# Altium footprint library BGM13P22F512GA-V2.PcbLib: 1 footprints
Each footprint in its own frame and in the unit in brackets; x right, y up, seen from the top. Pads: shape width x height; smd on the part's side, far side on the other; paste and mask are expansions set on the pad; w line width, h text height; cw(c..) or ccw(c..) is an arc to the next point about the centre after c.
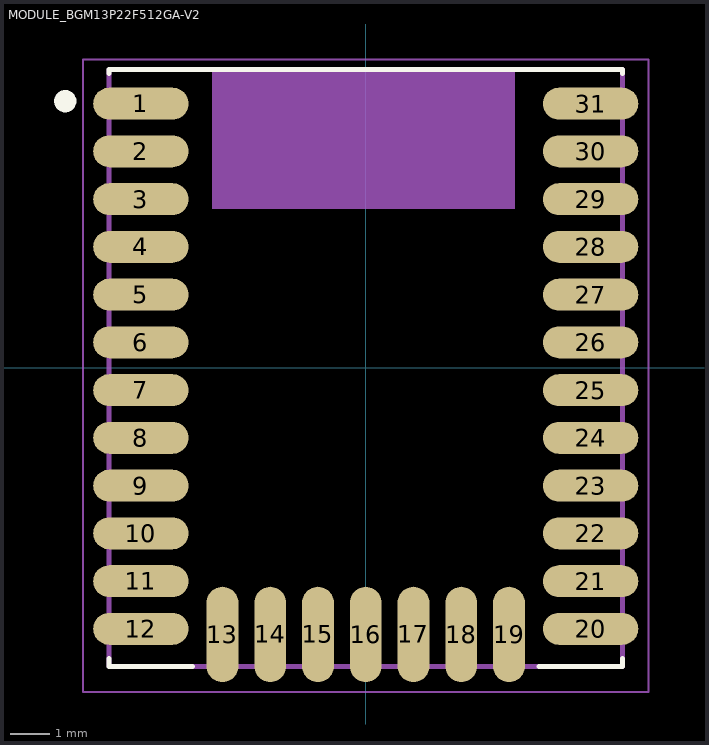
[diagram p0: the footprint, top view; thin cyan lines are the x and y axes]

## MODULE_BGM13P22F512GA-V2 [mm]
pads (31):
  oval 2.4x0.8 smd: 1(-5.65,6.64) 2(-5.65,5.44) 3(-5.65,4.24) 4(-5.65,3.04) 5(-5.65,1.84) 6(-5.65,0.64) 7(-5.65,-0.56) 8(-5.65,-1.76) 9(-5.65,-2.96) 10(-5.65,-4.16) 11(-5.65,-5.36) 12(-5.65,-6.56) 20(5.65,-6.56) 21(5.65,-5.36) 22(5.65,-4.16) 23(5.65,-2.96) 24(5.65,-1.76) 25(5.65,-0.56) 26(5.65,0.64) 27(5.65,1.84) 28(5.65,3.04) 29(5.65,4.24) 30(5.65,5.44) 31(5.65,6.64)
  oval 0.8x2.4 smd: 13(-3.6,-6.7) 14(-2.4,-6.7) 15(-1.2,-6.7) 16(0,-6.7) 17(1.2,-6.7) 18(2.4,-6.7) 19(3.6,-6.7)
Top Overlay:
  circle w0.28: c-7.55,6.7 r0.14
  lines w0.127: -6.45,-7.3 -6.45,-7.5 -4.35,-7.5 ; -6.45,7.4 -6.45,7.5 6.45,7.5 6.45,7.4 ; 4.35,-7.5 6.45,-7.5 6.45,-7.3
Mechanical 4:
  circle w0.28: c-5.65,6.64 r0.14
  circle w0.28: c-5.65,6.64 r0.14
  region: -3.85,7.5 3.75,7.5 3.75,4 -3.85,4
  region: -3.851,7.5 3.75,7.5 3.75,4.001 -3.851,4.001
  region: -3.858,7.5 3.75,7.5 3.75,4.008 -3.858,4.008
  region: -3.85,7.5 3.75,7.5 3.75,4 -3.85,4
  region: -3.851,7.5 3.75,7.5 3.75,4.001 -3.851,4.001
  region: -3.858,7.5 3.75,7.5 3.75,4.008 -3.858,4.008
  lines w0.127: -6.45,-7.5 -6.45,7.5 ; -6.45,-7.5 6.45,-7.5 ; -6.45,-7.5 -6.45,7.5 ; -6.45,-7.5 6.45,-7.5 ; -6.45,7.5 6.45,7.5 ; -6.45,7.5 6.45,7.5 ; 6.45,-7.5 6.45,7.5 ; 6.45,-7.5 6.45,7.5
Mechanical 16:
  lines w0.05: -7.1,-8.15 -7.1,7.75 7.1,7.75 7.1,-8.15 -7.1,-8.15